# Altium footprint library OKmePCBLibrary.PcbLib: 197 footprints (part 6 of 13)
Each footprint in its own frame and in the unit in brackets; x right, y up, seen from the top. Pads: shape width x height; smd on the part's side, far side on the other; paste and mask are expansions set on the pad; w line width, h text height; cw(c..) or ccw(c..) is an arc to the next point about the centre after c.
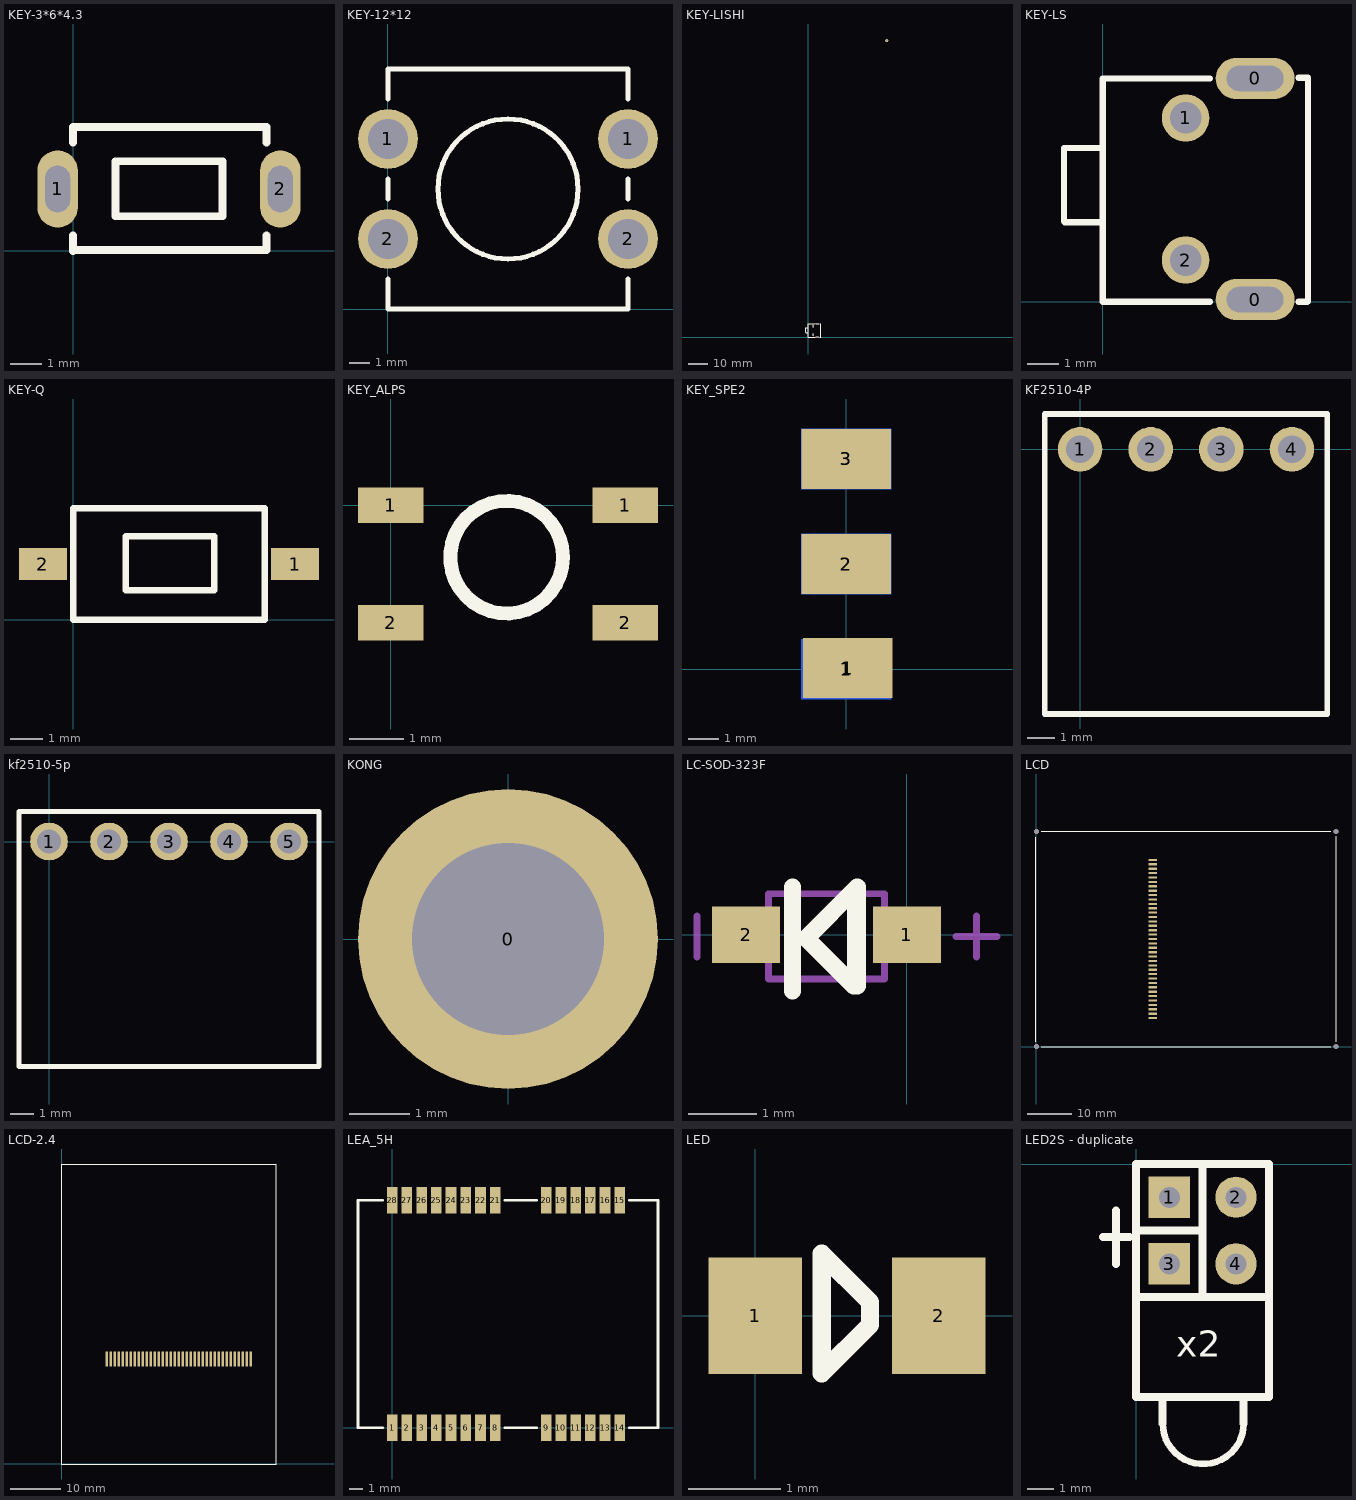
[diagram p5: the footprints below, top view; thin cyan lines are the x and y axes]

## KEY-3*6*4.3 [mm]
pads (2):
  oval 1.3x2.5 hole 0.8 slot 1.5 at 90 deg: 1(-0.5,2) 2(6.7,2)
Top Overlay:
  lines w0.254: 0,0 0,0.5 ; 0,0.025 6.25,0.025 6.25,0.5 ; 0,3.5 0,4 6.2,4 ; 6.25,3.5 6.25,4 ; 6.2,4 6.2,4 ; 1.372,1.118 4.826,1.118 4.826,2.896 1.372,2.896 1.372,1.118

## KEY-12*12 [mm]
pads (4):
  round 3 hole 2: 1(0,8.5) 1(12,8.5) 2(0,3.5) 2(12,3.5)
Top Overlay:
  circle w0.254: c6,6 r3.5
  lines w0.25: 0,1.5 0,0 12,0 12,1.5 ; 0,5.5 0,6.5 ; 0,10.5 0,12 12,12 12,10.5 ; 12,5.5 12,6.5

## KEY-LISHI [mm]
pads (5):
  oval 1.8x0.8 hole 0.5 slot 1.5 at 0 deg: 0(4.825,0.075) 0(4.825,7.075)
  oval 0.8x1.5 hole 0.5 slot 1 at 90 deg: 1(2.625,5.825) 2(2.625,1.325)
  round 1.6 hole 1: 13(40.65,153.3)
Top Overlay:
  lines w0.2: 0,2.5 -0.025,2.525 -1.2,2.525 -1.225,2.55 -1.225,4.875 0,4.875 ; 3.6,7.075 0,7.075 0,0 3.625,0 ; 6,7.1 6.5,7.1 6.5,0.025 6.475,0 6.05,0

## KEY-LS [mm]
pads (4):
  oval 2.5x1.3 hole 0.8 slot 1.8 at 0 deg: 0(4.825,0.075) 0(4.825,7.075)
  round 1.5 hole 1: 1(2.625,5.825) 2(2.625,1.325)
Top Overlay:
  lines w0.2: 0,2.5 -0.025,2.525 -1.2,2.525 -1.225,2.55 -1.225,4.875 0,4.875 ; 3.4,0 0,0 0,7.075 3.4,7.075 ; 6.2,0 6.475,0 6.5,0.025 6.5,7.1 6.2,7.1

## KEY-Q [mm]
pads (2):
  rect 1.5x1 smd: 1(6.95,1.75) 2(-0.95,1.75)
Top Overlay:
  lines w0.203: 0,0 6,0 6,3.5 0,3.5 0,0 ; 1.65,0.925 4.425,0.925 4.425,2.625 1.65,2.625 1.65,0.925

## KEY_ALPS [mm]
pads (4):
  rect 1.2x0.65 smd: 1(0,0) 1(4.3,0) 2(0,-2.15) 2(4.3,-2.15)
Top Overlay:
  circle w0.254: c2.125,-0.95 r1.034

## KEY_SPE2 [mm]
pads (6):
  rect 3x2 smd far side: 1(0,0) 2(0,3.5) 3(0,7)
  rect 3x2 smd: 1(0.05,0.025) 2(0,3.5) 3(0,7)

## KF2510-4P [mm]
pads (4):
  round 1.6 hole 1: 1(0,0) 2(2.54,0) 3(5.08,0) 4(7.62,0)
Top Overlay:
  lines w0.2: -1.27,-9.525 -1.27,1.27 8.89,1.27 8.89,-9.525 -1.27,-9.525

## kf2510-5p [mm]
pads (5):
  round 1.6 hole 1: 1(0,0) 2(2.54,0) 3(5.08,0) 4(7.62,0) 5(10.16,0)
Top Overlay:
  lines w0.2: -1.27,-9.525 11.43,-9.525 11.43,1.27 -1.27,1.27 -1.27,-9.525

## KONG [mm]
pads (1):
  round 5 hole 3.2: 0(0,0)

## LC-SOD-323F [mm]
pads (2):
  rect 1x0.83 smd: 1(0,0) 2(-2.36,0)
Top Overlay:
  lines w0.2: -0.78,-0.625 -0.78,0.575
  lines w0.254: -1.68,-0.825 -1.68,0.7 ; -0.78,-0.75 -1.48,-0.05 -0.73,0.7 -0.73,-0.75
Mechanical 13:
  lines w0.1: -2.03,-0.65 -0.33,-0.65 -0.33,0.6 -2.03,0.6 -2.03,-0.65
Mechanical 15:
  lines w0.1: -3.08,-0.325 -3.08,0.275 ; 0.72,-0.025 1.32,-0.025 ; 1.02,-0.325 1.02,0.275
3D body: height 0.75, standoff -0.01, extent -2.58,-0.7 0.22,0.65

## LCD [mm]
pads (37):
  rect 2x0.5 smd: 1(26.5,42.5) 2(26.5,41.5) 3(26.5,40.5) 4(26.5,39.5) 5(26.5,38.5) 6(26.5,37.5) 7(26.5,36.5) 8(26.5,35.5) 9(26.5,34.5) 10(26.5,33.5) 11(26.5,32.5) 12(26.5,31.5) 13(26.5,30.5) 14(26.5,29.5) 15(26.5,28.5) 16(26.5,27.5) 17(26.5,26.5) 18(26.5,25.5) 19(26.5,24.5) 20(26.5,23.5) 21(26.5,22.5) 22(26.5,21.5) 23(26.5,20.5) 24(26.5,19.5) 25(26.5,18.5) 26(26.5,17.5) 27(26.5,16.5) 28(26.5,15.5) 29(26.5,14.5) 30(26.5,13.5) 31(26.5,12.5) 32(26.5,11.5) 33(26.5,10.5) 34(26.5,9.5) 35(26.5,8.5) 36(26.5,7.5) 37(26.5,6.5)
via 68.2,49 diameter 1.2 hole 1.2
via 68.2,0 diameter 1.2 hole 1.2
via 0,49 diameter 1.2 hole 1.2
via 0,0 diameter 1.2 hole 1.2
Top Overlay:
  lines w0.203: -0.1,1.1 -0.1,47.7 ; 1.1,0 67,0 ; 1.1,49 67,49 ; 68.2,1.1 68.2,47.9

## LCD-2.4 [mm]
pads (37):
  rect 0.5x3 smd: 1(9,21) 2(9.8,21) 3(10.6,21) 4(11.4,21) 5(12.2,21) 6(13,21) 7(13.8,21) 8(14.6,21) 9(15.4,21) 10(16.2,21) 11(17,21) 12(17.8,21) 13(18.6,21) 14(19.4,21) 15(20.2,21) 16(21,21) 17(21.8,21) 18(22.6,21) 19(23.4,21) 20(24.2,21) 21(25,21) 22(25.8,21) 23(26.6,21) 24(27.4,21) 25(28.2,21) 26(29,21) 27(29.8,21) 28(30.6,21) 29(31.4,21) 30(32.2,21) 31(33,21) 32(33.8,21) 33(34.6,21) 34(35.4,21) 35(36.2,21) 36(37,21) 37(37.8,21)
Top Overlay:
  lines w0.203: 0,0 42.8,0 42.8,60 0,60 0,0

## LEA_5H [mm]
pads (28):
  rect 0.8x2 smd: 1(0,0) 2(1.1,0) 3(2.2,0) 4(3.3,0) 5(4.4,0) 6(5.5,0) 7(6.6,0) 8(7.7,0) 9(11.5,0) 10(12.6,0) 11(13.7,0) 12(14.8,0) 13(15.9,0) 14(17,0) 15(17,17) 16(15.9,17) 17(14.8,17) 18(13.7,17) 19(12.6,17) 20(11.5,17) 21(7.7,17) 22(6.6,17) 23(5.5,17) 24(4.4,17) 25(3.3,17) 26(2.2,17) 27(1.1,17) 28(0,17)
Top Overlay:
  lines w0.2: -2.55,15.6 -2.547,15.597 ; -2.547,8.603 -2.544,8.6 ; -0.7,0 -2.547,0 -2.547,17 -0.7,17 ; 8.4,0 10.8,0 ; 8.4,17 10.8,17 ; 17.7,0 19.85,0 19.85,17 17.7,17

## LED [mil]
pads (2):
  rect 40x50 smd: 1(0,0) 2(78.74,0)
Top Overlay:
  lines w7.87: 28.54,-24.61 28.54,26.57 49.21,5.91 49.21,-3.94 28.54,-24.61

## LED2S - duplicate [mil]
pads (4):
  rect 62x62 hole 31.5: 1(50,-50) 3(50,-150)
  round 62 hole 31.5: 2(150,-50) 4(150,-150)
Top Overlay:
  lines w10: 40,-390 ccw(c100.83,-390) 161.66,-390
  lines w12: -50,-110 -10,-110 ; -30,-150 -30,-70 ; 0,-200 200,-200 ; 0,-100 100,-100 ; 40,-390 40,-350 ; 100,-200 100,-100 ; 100,0 100,-100 ; 161.66,-390 161.66,-351.66 ; 0,-350 200,-350 200,0 0,0 0,-350
  text "x2" at 60,-290 h39.37